# Altium footprint library TPH1R403NL.PcbLib: 1 footprints
Each footprint in its own frame and in the unit in brackets; x right, y up, seen from the top. Pads: shape width x height; smd on the part's side, far side on the other; paste and mask are expansions set on the pad; w line width, h text height; cw(c..) or ccw(c..) is an arc to the next point about the centre after c.
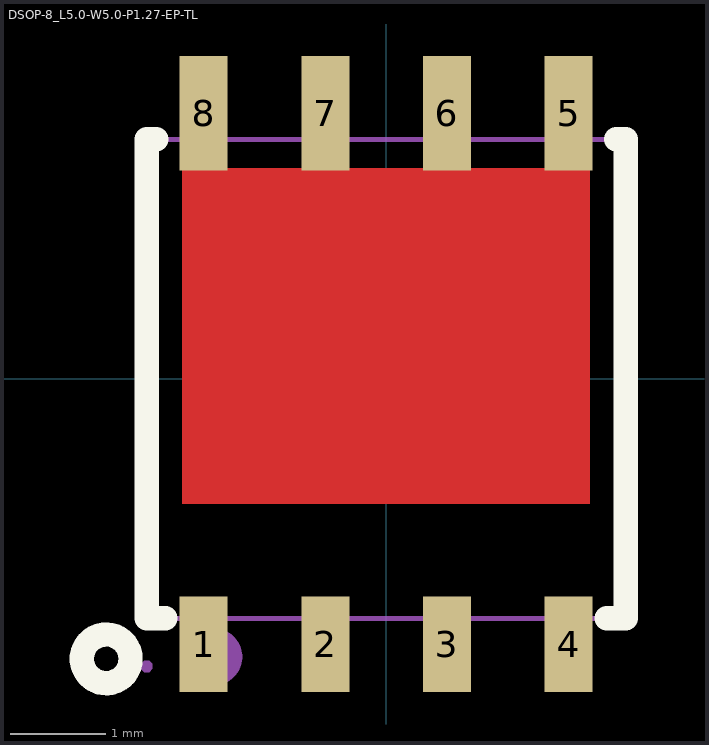
[diagram p0: the footprint, top view; thin cyan lines are the x and y axes]

## DSOP-8_L5.0-W5.0-P1.27-EP-TL [mil]
pads (8):
  rect 19.7x39.4 smd mask+1.97: 1(-75,-109) 2(-25,-109) 3(25,-109) 4(75,-109)
  rect 19.7x47.2 smd mask+1.97: 5(75,109.1) 6(25,109.1) 7(-25,109.1) 8(-75,109.1)
Top Layer:
  region: -83.7,86.6 83.7,86.6 83.7,-51.2 -83.7,-51.2
Top Overlay:
  circle w10: c-115,-115 r10
  lines w10: -94.5,98.4 -98.4,98.4 -98.4,-98.4 -90.6,-98.4 ; 90.6,-98.4 98.4,-98.4 98.4,98.4 94.5,98.4
Top Paste:
  region: -65.2,-89.3 -65.2,-128.7 -84.8,-128.7 -84.8,-89.3
  region: -15.2,-89.3 -15.2,-128.7 -34.8,-128.7 -34.8,-89.3
  region: 34.8,-89.3 34.8,-128.7 15.2,-128.7 15.2,-89.3
  region: 84.8,-89.3 84.8,-128.7 65.2,-128.7 65.2,-89.3
  region: -83.7,86.6 -84.8,86.6 -84.8,132.7 -65.2,132.7 -65.2,86.6 -34.8,86.6 -34.8,132.7 -15.2,132.7 -15.2,86.6 15.2,86.6 15.2,132.7 34.8,132.7 34.8,86.6 65.2,86.6 65.2,132.7 84.8,132.7 84.8,85.4 83.7,85.4 83.7,-51.2 -83.7,-51.2
Mechanical 6:
  circle w11.8: c-70.9,-114.2 r5.9
Mechanical 15:
  region: -96,-118.1 -96,-117.11 -97.41,-115.7 -99.39,-115.7 -100.8,-117.11 -100.8,-118.1 -100.8,-119.09 -99.39,-120.5 -97.41,-120.5 -96,-119.09 -96,-118.1
  region: 67.1,-118.1 67.1,-94.5 82.8,-94.5 82.8,-118.1
  region: 17.1,-118.1 17.1,-94.5 32.8,-94.5 32.8,-118.1
  region: -32.9,-118.1 -32.9,-94.5 -17.2,-94.5 -17.2,-118.1
  region: -82.9,-118.1 -82.9,-94.5 -67.2,-94.5 -67.2,-118.1
  region: 67.2,86.6 67.2,118.1 82.9,118.1 82.9,86.6
  region: -82.8,86.6 -82.8,118.1 -67.1,118.1 -67.1,86.6
  region: -32.8,86.6 -32.8,118.1 -17.1,118.1 -17.1,86.6
  region: 17.2,86.6 17.2,118.1 32.9,118.1 32.9,86.6
  region: -83.7,86.6 83.7,86.6 83.7,-51.2 -83.7,-51.2
  region: -83.7,86.6 83.7,86.6 83.7,-51.2 -83.7,-51.2
  lines w2: -98.4,-98.4 98.4,-98.4 98.4,98.4 -98.4,98.4 -98.4,-98.4
3D body "TPH1R403NL,L1Q.stp": height 43.31, standoff 0, extent -98.43,-132.4 98.43,134.53